# EAGLE library part NVC-MDCS42A (library NVC_MDCS42_BT)
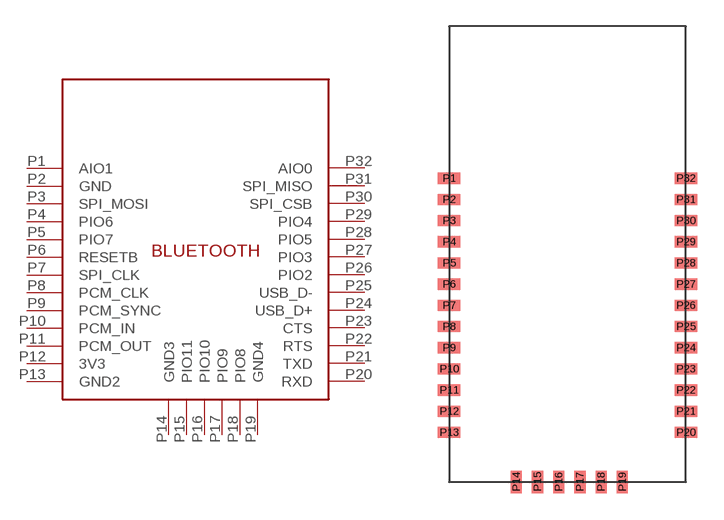
[diagram p0: symbol with the pads of NVC-MDCS42A; footprint NVC-MDCS42A]

Designator prefix -

## NVC-MDCS42ASMD  [NVC-MDCS42A]
P1  AIO1
P2  GND
P3  SPI_MOSI
P4  PIO6
P5  PIO7
P6  RESETB
P7  SPI_CLK
P8  PCM_CLK
P9  PCM_SYNC
P10  PCM_IN
P11  PCM_OUT
P12  3V3
P13  GND2
P14  GND3
P15  PIO11
P16  PIO10
P17  PIO9
P18  PIO8
P19  GND4
P20  RXD
P21  TXD
P22  RTS
P23  CTS
P24  USB_D+
P25  USB_D-
P26  PIO2
P27  PIO3
P28  PIO5
P29  PIO4
P30  SPI_CSB
P31  SPI_MISO
P32  AIO0

## Footprint NVC-MDCS42A (pad centres in mm)
smd 1.27 x 0.635: P1 0,17.2; P2 0,16; P3 0,14.8; P4 0,13.6; P5 0,12.4; P6 0,11.2; P7 0,10; P8 0,8.8; P9 0,7.6; P10 0,6.4; P11 0,5.2; P12 0,4; P13 0,2.8; P20 13.4,2.8; P21 13.4,4; P22 13.4,5.2; P23 13.4,6.4; P24 13.4,7.6; P25 13.4,8.8; P26 13.4,10; P27 13.4,11.2; P28 13.4,12.4; P29 13.4,13.6; P30 13.4,14.8; P31 13.4,16; P32 13.4,17.2
smd 0.635 x 1.27: P14 3.8,0; P15 5,0; P16 6.2,0; P17 7.4,0; P18 8.6,0; P19 9.8,0